# Altium footprint library PCA9548APW.PcbLib: 3 footprints
Each footprint in its own frame and in the unit in brackets; x right, y up, seen from the top. Pads: shape width x height; smd on the part's side, far side on the other; paste and mask are expansions set on the pad; w line width, h text height; cw(c..) or ccw(c..) is an arc to the next point about the centre after c.
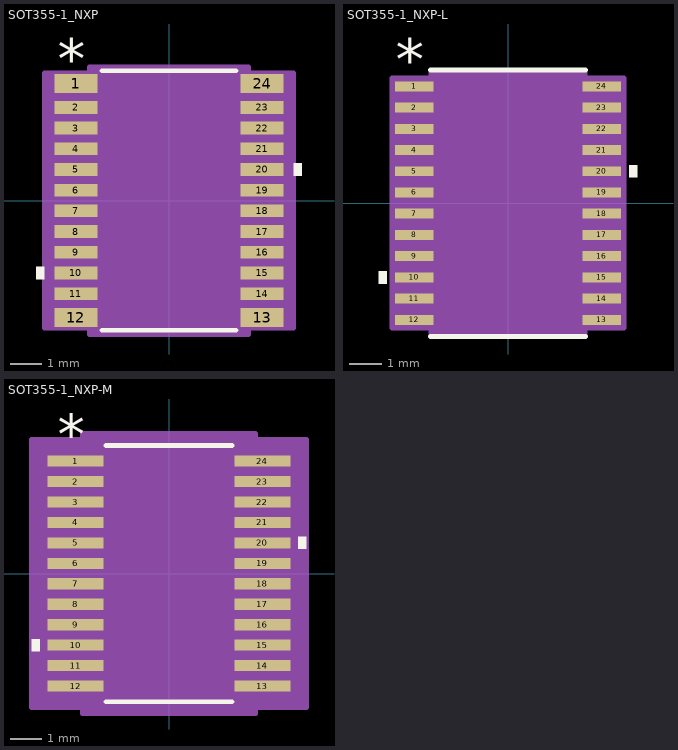
[diagram p0: the footprints below, top view; thin cyan lines are the x and y axes]

## SOT355-1_NXP [mm]
pads (24):
  rect 1.35x0.6 smd paste+0 mask+0: 1(-2.925,3.675) 12(-2.925,-3.675) 13(2.925,-3.675) 24(2.925,3.675)
  rect 1.35x0.4 smd paste+0 mask+0: 2(-2.925,2.925) 3(-2.925,2.275) 4(-2.925,1.625) 5(-2.925,0.975) 6(-2.925,0.325) 7(-2.925,-0.325) 8(-2.925,-0.975) 9(-2.925,-1.625) 10(-2.925,-2.275) 11(-2.925,-2.925) 14(2.925,-2.925) 15(2.925,-2.275) 16(2.925,-1.625) 17(2.925,-0.975) 18(2.925,-0.325) 19(2.925,0.325) 20(2.925,0.975) 21(2.925,1.625) 22(2.925,2.275) 23(2.925,2.925)
Top Overlay:
  region: -3.912,-2.084 -4.166,-2.084 -4.166,-2.465 -3.912,-2.465
  region: 3.912,1.165 4.166,1.165 4.166,0.784 3.912,0.784
  lines w0.152: -2.108,-4.077 2.108,-4.077 ; -2.108,4.077 2.108,4.077
  text "*" at -3.492,3.804 h1.27
Mechanical 13:
  lines w0: -0.305,3.95 ccw(c0,3.95) 0.305,3.95
  lines w0.025: -3.302,-3.727 -3.302,-3.423 -2.248,-3.423 -2.248,-3.727 -3.302,-3.727 ; -3.302,-3.077 -3.302,-2.773 -2.248,-2.773 -2.248,-3.077 -3.302,-3.077 ; -3.302,-2.427 -3.302,-2.123 -2.248,-2.123 -2.248,-2.427 -3.302,-2.427 ; -3.302,-1.777 -3.302,-1.473 -2.248,-1.473 -2.248,-1.777 -3.302,-1.777 ; -3.302,-1.127 -3.302,-0.823 -2.248,-0.823 -2.248,-1.127 -3.302,-1.127 ; -3.302,-0.477 -3.302,-0.173 -2.248,-0.173 -2.248,-0.477 -3.302,-0.477 ; -3.302,0.173 -3.302,0.477 -2.248,0.477 -2.248,0.173 -3.302,0.173 ; -3.302,0.823 -3.302,1.127 -2.248,1.127 -2.248,0.823 -3.302,0.823 ; -3.302,1.473 -3.302,1.777 -2.248,1.777 -2.248,1.473 -3.302,1.473 ; -3.302,2.123 -3.302,2.427 -2.248,2.427 -2.248,2.123 -3.302,2.123 ; -3.302,2.773 -3.302,3.077 -2.248,3.077 -2.248,2.773 -3.302,2.773 ; -3.302,3.423 -3.302,3.727 -2.248,3.727 -2.248,3.423 -3.302,3.423 ; -2.248,-3.95 2.248,-3.95 2.248,3.95 -2.248,3.95 -2.248,-3.95 ; 2.248,-3.727 2.248,-3.423 3.302,-3.423 3.302,-3.727 2.248,-3.727 ; 2.248,-3.077 2.248,-2.773 3.302,-2.773 3.302,-3.077 2.248,-3.077 ; 2.248,-2.427 2.248,-2.123 3.302,-2.123 3.302,-2.427 2.248,-2.427 ; 2.248,-1.777 2.248,-1.473 3.302,-1.473 3.302,-1.777 2.248,-1.777 ; 2.248,-1.127 2.248,-0.823 3.302,-0.823 3.302,-1.127 2.248,-1.127 ; 2.248,-0.477 2.248,-0.173 3.302,-0.173 3.302,-0.477 2.248,-0.477 ; 2.248,0.173 2.248,0.477 3.302,0.477 3.302,0.173 2.248,0.173 ; 2.248,0.823 2.248,1.127 3.302,1.127 3.302,0.823 2.248,0.823 ; 2.248,1.473 2.248,1.777 3.302,1.777 3.302,1.473 2.248,1.473 ; 2.248,2.123 2.248,2.427 3.302,2.427 3.302,2.123 2.248,2.123 ; 2.248,2.773 2.248,3.077 3.302,3.077 3.302,2.773 2.248,2.773 ; 2.248,3.423 2.248,3.727 3.302,3.727 3.302,3.423 2.248,3.423
  text "*" at -2.184,2.603 h1.27
Mechanical 15:
  region: -2.502,-4.007 -3.912,-4.007 -3.912,4.007 -2.502,4.007 -2.502,4.204 2.502,4.204 2.502,4.007 3.912,4.007 3.912,-4.007 2.502,-4.007 2.502,-4.204 -2.502,-4.204
  lines w0.152: -3.912,-4.007 -3.912,4.007 -2.502,4.007 -2.502,4.204 2.502,4.204 2.502,4.007 3.912,4.007 3.912,-4.007 2.502,-4.007 2.502,-4.204 -2.502,-4.204 -2.502,-4.007 -3.912,-4.007
3D body "SOT355-1_NXP.step": height 1.09, standoff 0, extent -3.302,-3.95 3.302,3.95

## SOT355-1_NXP-L [mil]
pads (24):
  rect 46x12 smd paste+0 mask+0: 1(-113,140.75) 2(-113,115.16) 3(-113,89.57) 4(-113,63.98) 5(-113,38.39) 6(-113,12.8) 7(-113,-12.8) 8(-113,-38.39) 9(-113,-63.98) 10(-113,-89.57) 11(-113,-115.16) 12(-113,-140.75) 13(113,-140.75) 14(113,-115.16) 15(113,-89.57) 16(113,-63.98) 17(113,-38.39) 18(113,-12.8) 19(113,12.8) 20(113,38.39) 21(113,63.98) 22(113,89.57) 23(113,115.16) 24(113,140.75)
Top Overlay:
  region: -146,-82.07 -156,-82.07 -156,-97.07 -146,-97.07
  region: 146,45.89 156,45.89 156,30.89 146,30.89
  lines w6: -93.5,-160.5 93.5,-160.5 ; -93.5,160.5 93.5,160.5
  text "*" at -135.5,147.75 h50
Mechanical 13:
  lines w0: -12,155.5 ccw(c0,155.5) 12,155.5
  lines w1: -130,-146.75 -130,-134.75 -88.5,-134.75 -88.5,-146.75 -130,-146.75 ; -130,-121.16 -130,-109.16 -88.5,-109.16 -88.5,-121.16 -130,-121.16 ; -130,-95.57 -130,-83.57 -88.5,-83.57 -88.5,-95.57 -130,-95.57 ; -130,-69.98 -130,-57.98 -88.5,-57.98 -88.5,-69.98 -130,-69.98 ; -130,-44.39 -130,-32.39 -88.5,-32.39 -88.5,-44.39 -130,-44.39 ; -130,-18.8 -130,-6.8 -88.5,-6.8 -88.5,-18.8 -130,-18.8 ; -130,6.8 -130,18.8 -88.5,18.8 -88.5,6.8 -130,6.8 ; -130,32.39 -130,44.39 -88.5,44.39 -88.5,32.39 -130,32.39 ; -130,57.98 -130,69.98 -88.5,69.98 -88.5,57.98 -130,57.98 ; -130,83.57 -130,95.57 -88.5,95.57 -88.5,83.57 -130,83.57 ; -130,109.16 -130,121.16 -88.5,121.16 -88.5,109.16 -130,109.16 ; -130,134.75 -130,146.75 -88.5,146.75 -88.5,134.75 -130,134.75 ; -88.5,-155.5 88.5,-155.5 88.5,155.5 -88.5,155.5 -88.5,-155.5 ; 88.5,-146.75 88.5,-134.75 130,-134.75 130,-146.75 88.5,-146.75 ; 88.5,-121.16 88.5,-109.16 130,-109.16 130,-121.16 88.5,-121.16 ; 88.5,-95.57 88.5,-83.57 130,-83.57 130,-95.57 88.5,-95.57 ; 88.5,-69.98 88.5,-57.98 130,-57.98 130,-69.98 88.5,-69.98 ; 88.5,-44.39 88.5,-32.39 130,-32.39 130,-44.39 88.5,-44.39 ; 88.5,-18.8 88.5,-6.8 130,-6.8 130,-18.8 88.5,-18.8 ; 88.5,6.8 88.5,18.8 130,18.8 130,6.8 88.5,6.8 ; 88.5,32.39 88.5,44.39 130,44.39 130,32.39 88.5,32.39 ; 88.5,57.98 88.5,69.98 130,69.98 130,57.98 88.5,57.98 ; 88.5,83.57 88.5,95.57 130,95.57 130,83.57 88.5,83.57 ; 88.5,109.16 88.5,121.16 130,121.16 130,109.16 88.5,109.16 ; 88.5,134.75 88.5,146.75 130,146.75 130,134.75 88.5,134.75
  text "*" at -86,102.5 h50
Mechanical 15:
  region: -92.5,-150.75 -140,-150.75 -140,150.75 -92.5,150.75 -92.5,159.5 92.5,159.5 92.5,150.75 140,150.75 140,-150.75 92.5,-150.75 92.5,-159.5 -92.5,-159.5
  lines w6: -140,-150.75 -140,150.75 -92.5,150.75 -92.5,159.5 92.5,159.5 92.5,150.75 140,150.75 140,-150.75 92.5,-150.75 92.5,-159.5 -92.5,-159.5 -92.5,-150.75 -140,-150.75
3D body "SOT355-1_NXP.step": height 43.11, standoff 0, extent -130,-155.51 130,155.51

## SOT355-1_NXP-M [mil]
pads (24):
  rect 70x14 smd paste+0 mask+0: 1(-117,140.75) 2(-117,115.16) 3(-117,89.57) 4(-117,63.98) 5(-117,38.39) 6(-117,12.8) 7(-117,-12.8) 8(-117,-38.39) 9(-117,-63.98) 10(-117,-89.57) 11(-117,-115.16) 12(-117,-140.75) 13(117,-140.75) 14(117,-115.16) 15(117,-89.57) 16(117,-63.98) 17(117,-38.39) 18(117,-12.8) 19(117,12.8) 20(117,38.39) 21(117,63.98) 22(117,89.57) 23(117,115.16) 24(117,140.75)
Top Overlay:
  region: -162,-82.07 -172,-82.07 -172,-97.07 -162,-97.07
  region: 162,45.89 172,45.89 172,30.89 162,30.89
  lines w6: -79,-160.5 79,-160.5 ; -79,160.5 79,160.5
  text "*" at -139.5,149.75 h50
Mechanical 13:
  lines w0: -12,155.5 ccw(c0,155.5) 12,155.5
  lines w1: -130,-146.75 -130,-134.75 -88.5,-134.75 -88.5,-146.75 -130,-146.75 ; -130,-121.16 -130,-109.16 -88.5,-109.16 -88.5,-121.16 -130,-121.16 ; -130,-95.57 -130,-83.57 -88.5,-83.57 -88.5,-95.57 -130,-95.57 ; -130,-69.98 -130,-57.98 -88.5,-57.98 -88.5,-69.98 -130,-69.98 ; -130,-44.39 -130,-32.39 -88.5,-32.39 -88.5,-44.39 -130,-44.39 ; -130,-18.8 -130,-6.8 -88.5,-6.8 -88.5,-18.8 -130,-18.8 ; -130,6.8 -130,18.8 -88.5,18.8 -88.5,6.8 -130,6.8 ; -130,32.39 -130,44.39 -88.5,44.39 -88.5,32.39 -130,32.39 ; -130,57.98 -130,69.98 -88.5,69.98 -88.5,57.98 -130,57.98 ; -130,83.57 -130,95.57 -88.5,95.57 -88.5,83.57 -130,83.57 ; -130,109.16 -130,121.16 -88.5,121.16 -88.5,109.16 -130,109.16 ; -130,134.75 -130,146.75 -88.5,146.75 -88.5,134.75 -130,134.75 ; -88.5,-155.5 88.5,-155.5 88.5,155.5 -88.5,155.5 -88.5,-155.5 ; 88.5,-146.75 88.5,-134.75 130,-134.75 130,-146.75 88.5,-146.75 ; 88.5,-121.16 88.5,-109.16 130,-109.16 130,-121.16 88.5,-121.16 ; 88.5,-95.57 88.5,-83.57 130,-83.57 130,-95.57 88.5,-95.57 ; 88.5,-69.98 88.5,-57.98 130,-57.98 130,-69.98 88.5,-69.98 ; 88.5,-44.39 88.5,-32.39 130,-32.39 130,-44.39 88.5,-44.39 ; 88.5,-18.8 88.5,-6.8 130,-6.8 130,-18.8 88.5,-18.8 ; 88.5,6.8 88.5,18.8 130,18.8 130,6.8 88.5,6.8 ; 88.5,32.39 88.5,44.39 130,44.39 130,32.39 88.5,32.39 ; 88.5,57.98 88.5,69.98 130,69.98 130,57.98 88.5,57.98 ; 88.5,83.57 88.5,95.57 130,95.57 130,83.57 88.5,83.57 ; 88.5,109.16 88.5,121.16 130,121.16 130,109.16 88.5,109.16 ; 88.5,134.75 88.5,146.75 130,146.75 130,134.75 88.5,134.75
  text "*" at -86,102.5 h50
Mechanical 15:
  region: -108.5,-167.75 -172,-167.75 -172,167.75 -108.5,167.75 -108.5,175.5 108.5,175.5 108.5,167.75 172,167.75 172,-167.75 108.5,-167.75 108.5,-175.5 -108.5,-175.5
  lines w6: -172,-167.75 -172,167.75 -108.5,167.75 -108.5,175.5 108.5,175.5 108.5,167.75 172,167.75 172,-167.75 108.5,-167.75 108.5,-175.5 -108.5,-175.5 -108.5,-167.75 -172,-167.75
3D body "SOT355-1_NXP.step": height 43.11, standoff 0, extent -130,-155.51 130,155.51